# Altium schematic symbol library RC1206JR-074K7L.SchLib: 1 symbol
Pins are listed as number, name and electrical type; pins without a type are passive.

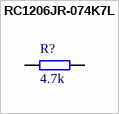
[diagram p0: symbol RC1206JR-074K7L]

## RC1206JR-074K7L
designator R?, comment 4.7k
4.7 kOhms Â±5% 0.25W, 1/4W Chip Resistor 1206 (3216 Metric) Moisture Resistant Thick Film; MF: Yageo; MP: RC1206JR-074K7L; Check_prices: https://www.snapeda.com/parts/RC1206JR-074K7L/Yageo/view-part/615385/?ref=eda; SnapEDA_Link: https://www.snapeda.com/parts/RC1206JR-074K7L/Yageo/view-part/615385/?ref=snap; Availability: Unavailable; Package: 3116 Yageo; Price: None; Value: *
footprint RESC3116X65N
pins: 1, 2